# Altium integrated library MCP4921T-E_SN.IntLib: 1 symbol
Pins are listed as number, name and electrical type; pins without a type are passive.

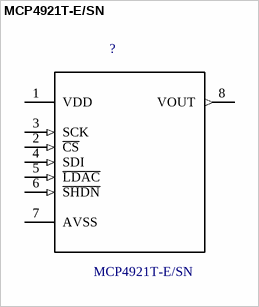
[diagram p0: symbol MCP4921T-E/SN]

## MCP4921T-E/SN
designator ?
MCP4921 Series 1 Ch 12-Bit Voltage Output Digital-to-Analog Converter-SOIC-8; MF: Microchip; Package: SOIC-8 Microchip; Availability: Unavailable; MP: MCP4921T-E/SN; SnapEDA_Link: https://www.snapeda.com/parts/MCP4921T-E/SN/Microchip/view-part/?ref=snap; Price: None; Value: *
footprint *SOIC8-N_MC
pins: 1 VDD (power), 2 ~{CS} (in), 3 SCK (in), 4 SDI (in), 5 ~{LDAC} (in), 6 ~{SHDN} (in), 7 AVSS (power), 8 VOUT (out)